# Altium footprint library ASP-134606-01.PcbLib: 1 footprints
Each footprint in its own frame and in the unit in brackets; x right, y up, seen from the top. Pads: shape width x height; smd on the part's side, far side on the other; paste and mask are expansions set on the pad; w line width, h text height; cw(c..) or ccw(c..) is an arc to the next point about the centre after c.
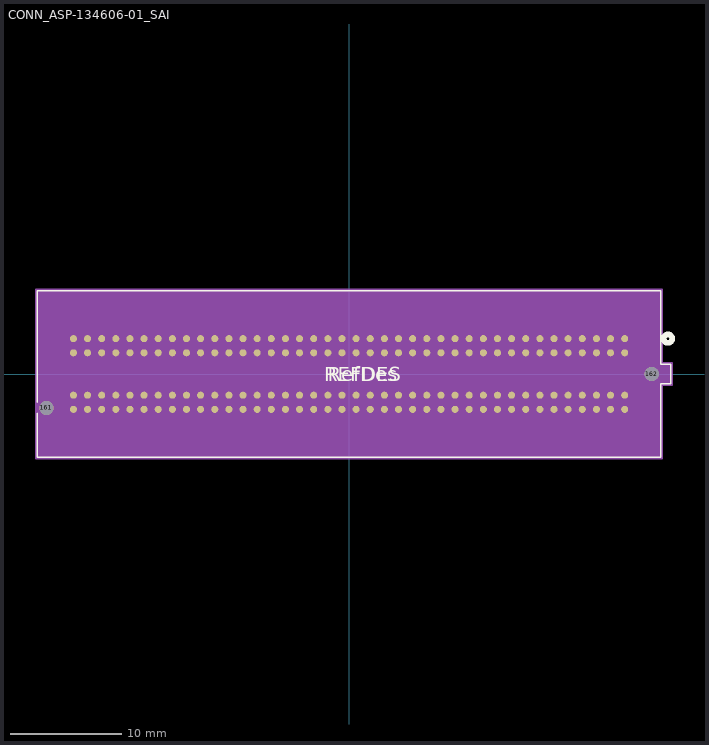
[diagram p0: the footprint, top view; thin cyan lines are the x and y axes]

## CONN_ASP-134606-01_SAI [mil]
pads (162):
  round 50 / inner round 60 / far side round 50 hole 50 unplated paste+0 mask+0: 161(-1070.5,-120) 162(1070.5,0)
  round 25 smd paste+0 mask+0: C1(975,125) C2(925,125) C3(875,125) C4(825,125) C5(775,125) C6(725,125) C7(675,125) C8(625,125) C9(575,125) C10(525,125) C11(475,125) C12(425,125) C13(375,125) C14(325,125) C15(275,125) C16(225,125) C17(175,125) C18(125,125) C19(75,125) C20(25,125) C21(-25,125) C22(-75,125) C23(-125,125) C24(-175,125) C25(-225,125) C26(-275,125) C27(-325,125) C28(-375,125) C29(-425,125) C30(-475,125) C31(-525,125) C32(-575,125) C33(-625,125) C34(-675,125) C35(-725,125) C36(-775,125) C37(-825,125) C38(-875,125) C39(-925,125) C40(-975,125) D1(975,75) D2(925,75) D3(875,75) D4(825,75) D5(775,75) D6(725,75) D7(675,75) D8(625,75) D9(575,75) D10(525,75) D11(475,75) D12(425,75) D13(375,75) D14(325,75) D15(275,75) D16(225,75) D17(175,75) D18(125,75) D19(75,75) D20(25,75) D21(-25,75) D22(-75,75) D23(-125,75) D24(-175,75) D25(-225,75) D26(-275,75) D27(-325,75) D28(-375,75) D29(-425,75) D30(-475,75) D31(-525,75) D32(-575,75) D33(-625,75) D34(-675,75) D35(-725,75) D36(-775,75) D37(-825,75) D38(-875,75) D39(-925,75) D40(-975,75) G1(975,-75) G2(925,-75) G3(875,-75) G4(825,-75) G5(775,-75) G6(725,-75) G7(675,-75) G8(625,-75) G9(575,-75) G10(525,-75) G11(475,-75) G12(425,-75) G13(375,-75) G14(325,-75) G15(275,-75) G16(225,-75) G17(175,-75) G18(125,-75) G19(75,-75) G20(25,-75) G21(-25,-75) G22(-75,-75) G23(-125,-75) G24(-175,-75) G25(-225,-75) G26(-275,-75) G27(-325,-75) G28(-375,-75) G29(-425,-75) G30(-475,-75) G31(-525,-75) G32(-575,-75) G33(-625,-75) G34(-675,-75) G35(-725,-75) G36(-775,-75) G37(-825,-75) G38(-875,-75) G39(-925,-75) G40(-975,-75) H1(975,-125) H2(925,-125) H3(875,-125) H4(825,-125) H5(775,-125) H6(725,-125) H7(675,-125) H8(625,-125) H9(575,-125) H10(525,-125) H11(475,-125) H12(425,-125) H13(375,-125) H14(325,-125) H15(275,-125) H16(225,-125) H17(175,-125) H18(125,-125) H19(75,-125) H20(25,-125) H21(-25,-125) H22(-75,-125) H23(-125,-125) H24(-175,-125) H25(-225,-125) H26(-275,-125) H27(-325,-125) H28(-375,-125) H29(-425,-125) H30(-475,-125) H31(-525,-125) H32(-575,-125) H33(-625,-125) H34(-675,-125) H35(-725,-125) H36(-775,-125) H37(-825,-125) H38(-875,-125) H39(-925,-125) H40(-975,-125)
Top Overlay:
  circle w20: c1128,125 r15
  lines w6: -1103,-139.88 -1103,-294 1103,-294 1103,-35 1138,-35 1138,35 1103,35 1103,294 -1103,294 -1103,-100.12
  text "RefDes" at -75,-25 h50
  text "REFDES" at -87.5,-25 h50
Bottom Overlay:
  circle w20: c1128,125 r15
Mechanical 13:
  circle w20: c975,200 r15
  lines w1: -1098,-289 1098,-289 1098,-30 1133,-30 1133,30 1098,30 1098,289 -1098,289 -1098,-289
  text "RefDes2" at -87.5,-25 h50
Mechanical 15:
  region: 1143,40 1108,40 1108,299 -1108,299 -1108,-299 1108,-299 1108,-40 1143,-40
  lines w6: -1108,-299 -1108,299 1108,299 1108,40 1143,40 1143,-40 1108,-40 1108,-299 -1108,-299